# EAGLE library part TEXAS_LP3878MR-ADJ (library Leddriverboard)
Voltage Regulator
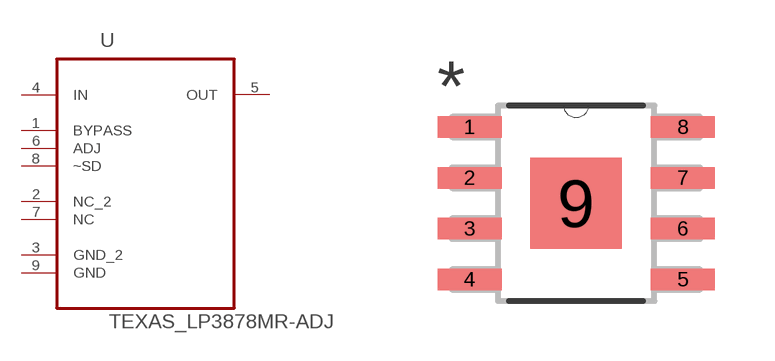
[diagram p1: symbol with the pads of TEXAS_SOIC127P600X168-8N; footprint TEXAS_SOIC127P600X168-8N]

Designator prefix U

## TEXAS_LP3878MR-ADJ (MPN: LP3878MR-ADJ; OC_FARNELL: 1286784; OC_NEWARK: 65K6513; PACKAGE: SOIC-8; SUPPLIER: NationalSemiconductor)  [TEXAS_SOIC127P600X168-8N]
1  BYPASS  pas
2  NC_2  nc
3  GND_2  pas
4  IN  in
5  OUT  out
6  ADJ  pas
7  NC  nc
8  ~SD  pas
9  GND  pas

## Footprint TEXAS_SOIC127P600X168-8N (pad centres in mm)
smd 1.6 x 0.533: 1 -2.667,1.905; 2 -2.667,0.635; 3 -2.667,-0.635; 4 -2.667,-1.905; 5 2.667,-1.905; 6 2.667,-0.635; 7 2.667,0.635; 8 2.667,1.905
smd 2.286 x 2.286: 9 0,0